# Altium footprint library res.PcbLib: 1 footprints
Each footprint in its own frame and in the unit in brackets; x right, y up, seen from the top. Pads: shape width x height; smd on the part's side, far side on the other; paste and mask are expansions set on the pad; w line width, h text height; cw(c..) or ccw(c..) is an arc to the next point about the centre after c.
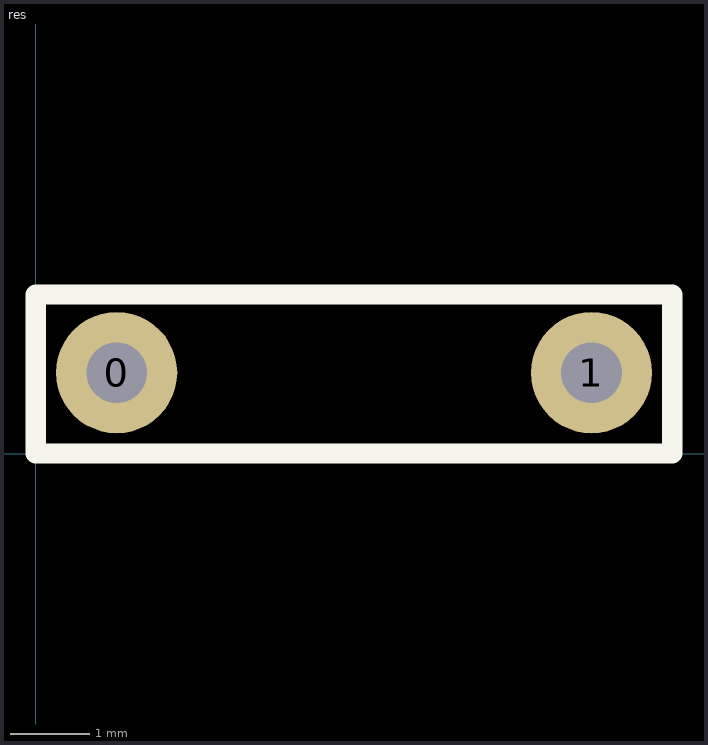
[diagram p0: the footprint, top view; thin cyan lines are the x and y axes]

## res [mil]
pads (2):
  round 60 hole 30: 0(40,40) 1(275,40)
Top Overlay:
  lines w10: 0,0 0,78.74 314.96,78.74 314.96,0 0,0